# EAGLE library part SMHDR-1X6 (library ipod_lib)
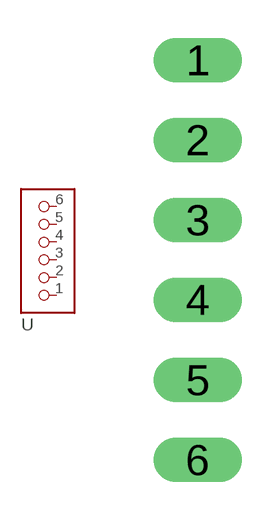
[diagram p0: symbol with the pads of SMHDR-1X6; footprint SMHDR-1X6]

Designator prefix -

## SMHDR-1X6  [SMHDR-1X6]
1  1  pas
2  2  pas
3  3  pas
4  4  pas
5  5  pas
6  6  pas

## Footprint SMHDR-1X6 (pad centres in mm)
drill 0.6 long: 1 0,0; 2 0,-2; 3 0,-4; 4 0,-6; 5 0,-8; 6 0,-10